# Altium footprint library CAPPOL_SMD_SIZE_B.PcbLib: 1 footprints
Each footprint in its own frame and in the unit in brackets; x right, y up, seen from the top. Pads: shape width x height; smd on the part's side, far side on the other; paste and mask are expansions set on the pad; w line width, h text height; cw(c..) or ccw(c..) is an arc to the next point about the centre after c.
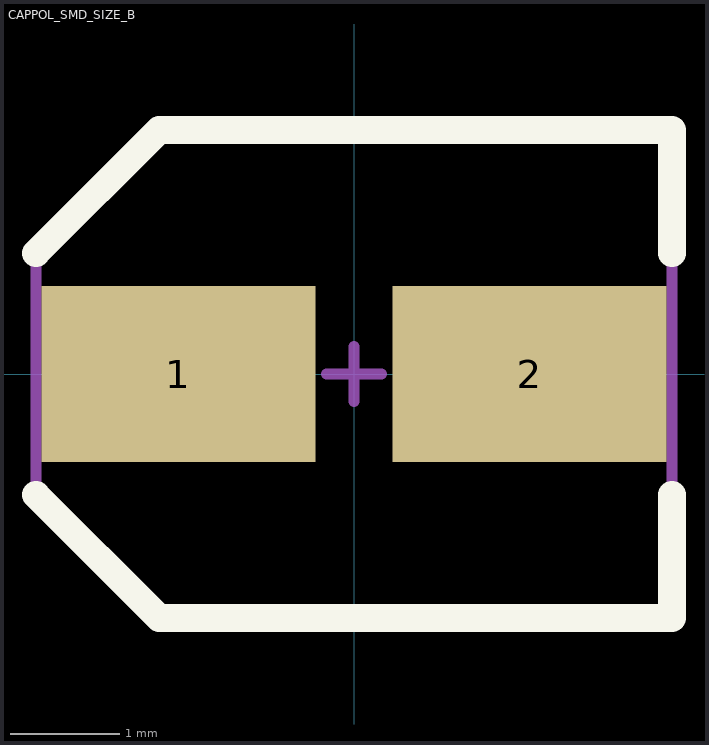
[diagram p0: the footprint, top view; thin cyan lines are the x and y axes]

## CAPPOL_SMD_SIZE_B [mm]
height 0.95
pads (2):
  rect 2.5x1.6 smd: 1(-1.6,0) 2(1.6,0)
Top Overlay:
  lines w0.254: -2.9,-1.1 -1.775,-2.225 2.9,-2.225 2.9,-1.1 ; -2.9,1.1 -1.775,2.225 2.9,2.225 2.9,1.1
Top Assembly:
  lines w0.1: -0.25,0 0.25,0 ; 0,-0.25 0,0.25 ; -2.9,-1.1 -2.9,1.1 -1.775,2.225 2.9,2.225 2.9,-2.225 -1.775,-2.225 -2.9,-1.1
  text "'.Designator'" at 0,0 h0.7
3D body "User Library-capacitor size B.STEP": height 5.41, standoff -0.01, extent -2.3,-2.15 2.3,2.15